# Altium footprint library 30R400UMR.PcbLib: 1 footprints
Each footprint in its own frame and in the unit in brackets; x right, y up, seen from the top. Pads: shape width x height; smd on the part's side, far side on the other; paste and mask are expansions set on the pad; w line width, h text height; cw(c..) or ccw(c..) is an arc to the next point about the centre after c.
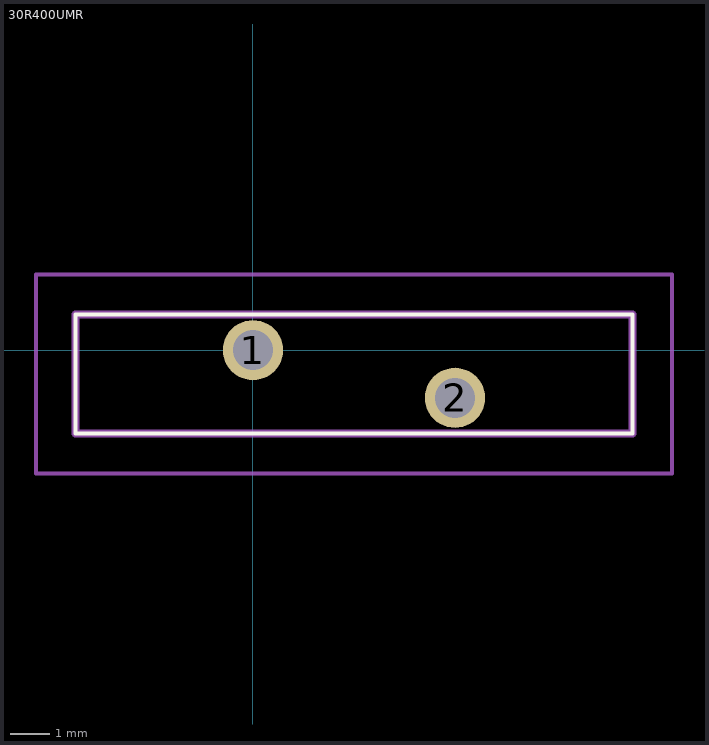
[diagram p0: the footprint, top view; thin cyan lines are the x and y axes]

## 30R400UMR [mm]
pads (2):
  round 1.515 hole 1.01: 1(0,0) 2(5.08,-1.2)
Top Overlay:
  lines w0.1: -4.46,-2.1 9.54,-2.1 9.54,0.9 -4.46,0.9 -4.46,-2.1
Mechanical 15:
  lines w0.2: -4.46,-2.1 9.54,-2.1 9.54,0.9 -4.46,0.9 -4.46,-2.1
Mechanical 20:
  lines w0.1: -5.46,-3.1 10.54,-3.1 10.54,1.9 -5.46,1.9 -5.46,-3.1